# EAGLE library part ADUM1412 (library analog-devices)
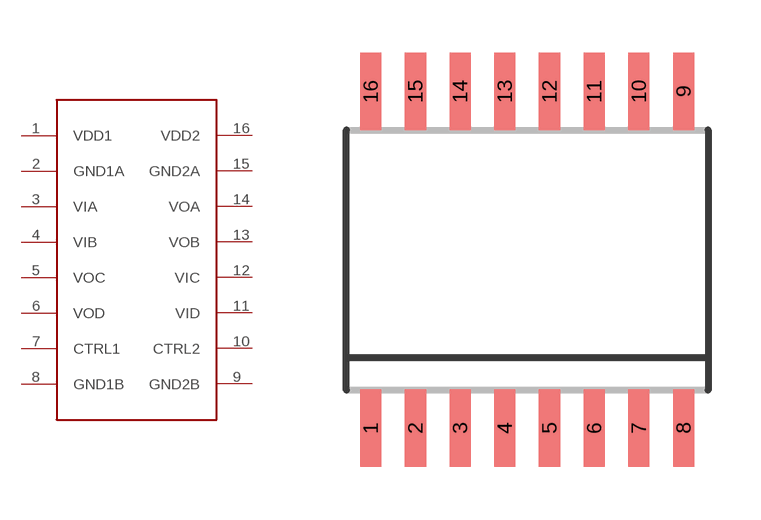
[diagram p150: symbol with the pads of SOIC16R; footprint SOIC16R]

Designator prefix -

## ADUM1412  [SOIC16R]
1  VDD1
2  GND1A
3  VIA
4  VIB
5  VOC
6  VOD
7  CTRL1
8  GND1B
9  GND2B
10  CTRL2
11  VID
12  VIC
13  VOB
14  VOA
15  GND2A
16  VDD2

## Footprint SOIC16R (pad centres in mm)
16-Lead SOIC (R) Package Source: http://www.analog.com/static/imported-files/data_sheets/AD745.pdf
smd 0.6 x 2.2: 1 -4.445,-4.775; 2 -3.175,-4.775; 3 -1.905,-4.775; 4 -0.635,-4.775; 5 0.635,-4.775; 6 1.905,-4.775; 7 3.175,-4.775; 8 4.445,-4.775; 9 4.445,4.8; 10 3.175,4.8; 11 1.905,4.8; 12 0.635,4.8; 13 -0.635,4.8; 14 -1.905,4.8; 15 -3.175,4.8; 16 -4.445,4.8